# Altium schematic symbol library AD7998.SchLib: 1 symbol
Pins are listed as number, name and electrical type; pins without a type are passive.

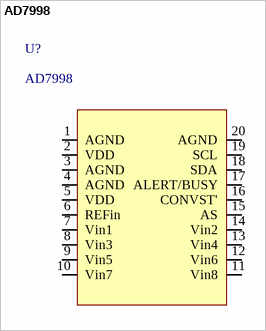
[diagram p0: symbol AD7998]

## AD7998
designator U?
8-Channel, 12-Bit ADC
footprint TSOP65P640X120-20N (TSOP, 20-Leads, Body 6.6x4.5mm (max), Pitch 0.65mm, IPC Medium Density)
pins: 1 AGND, 2 VDD, 3 AGND, 4 AGND, 5 VDD, 6 REFin, 7 Vin1, 8 Vin3, 9 Vin5, 10 Vin7, 11 Vin8, 12 Vin6, 13 Vin4, 14 Vin2, 15 AS, 16 CONVST', 17 ALERT/BUSY, 18 SDA, 19 SCL, 20 AGND